# Altium schematic symbol library TJA1051T31J.SchLib: 1 symbol
Pins are listed as number, name and electrical type; pins without a type are passive.

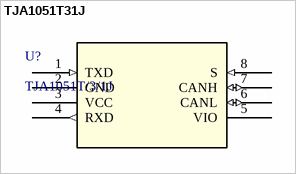
[diagram p0: symbol TJA1051T31J]

## TJA1051T31J
designator U?, comment TJA1051T/3/1J
Description; Manufacturer_Name: NXP; Copyright: Copyright (C) 2025 Ultra Librarian. All rights reserved.; Manufacturer_Part_Number: TJA1051T/3/1J; RefDes: RefDes; Type: Type
footprint SO8_SOT96-1_NXP
pins: 1 TXD (in), 2 GND (power), 3 VCC (power), 4 RXD (out), 5 VIO (power), 6 CANL (io), 7 CANH (io), 8 S (in)